# EAGLE library part TS5A21366 (library bschulz)
TS5A21366 - 2 Channel SPST Analog Switch Characteristics: VCC: 1.65~5.5V Operating Temperature: -40°C to 85°C On state resistace: 0.75 Ω, Typ Channel to Channel Matching: 0.04 Ω, Typical Digikey: 296-24304-1-ND (US8, DCU) <https://www.digikey.com/product-detail/en/texas-instruments/TS5A21366DCUR/296-24304-1-ND/2039822> 296-25285-1-ND (UFQFN, RSE) <https://www.digikey.com/product-detail/en/texas-instruments/TS5A21366RSER/296-25285-1-ND/2178186>
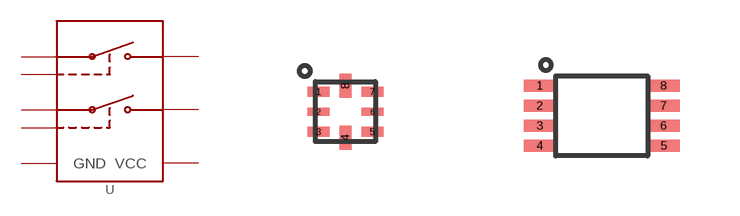
[diagram p91: symbol with the pads of RSE0008A; footprints RSE0008A, DCU_(S-PDSO-G8)]

Designator prefix U

## TS5A21366RSE (DIGIKEY: 296-25285-1-ND; DISP: TS5A21366; MF: TI; MPN: TS5A21366RSER)  [RSE0008A]
1  B1
2  VCC  pwr
3  S1  in
4  A2
5  B2
6  GND  pwr
7  S2  in
8  A1

## TS5A21366DCU (DIGIKEY: 296-24304-1-ND; DISP: TS5A21366; MF: TI; MPN: TS5A21366DCUR)  [DCU_(S-PDSO-G8)]
1  B1
2  A1
3  S2  in
4  GND  pwr
5  B2
6  A2
7  S1  in
8  VCC  pwr

## Footprint RSE0008A (pad centres in mm)
RSE0008A UQFN, 8 pin
smd 0.55 x 0.25: 1 -0.675,0.5; 3 -0.675,-0.5; 5 0.675,-0.5; 7 0.675,0.5
smd 0.55 x 0.2: 2 -0.675,0; 6 0.675,0
smd 0.3 x 0.6: 4 0,-0.65; 8 0,0.65

## Footprint DCU_(S-PDSO-G8) (pad centres in mm)
DCU (S-PDSO-G8) PLASTIC SMALL OUTLINE PACKAGE (DIE DOWN) Soure: Data sheet <http://www.ti.com/lit/ds/symlink/ts5a21366.pdf>
smd 0.8 x 0.3: 1 -1.55,0.75; 2 -1.55,0.25; 3 -1.55,-0.25; 4 -1.55,-0.75; 5 1.55,-0.75; 6 1.55,-0.25; 7 1.55,0.25; 8 1.55,0.75